# EAGLE library part CM108 (library BaseApp)
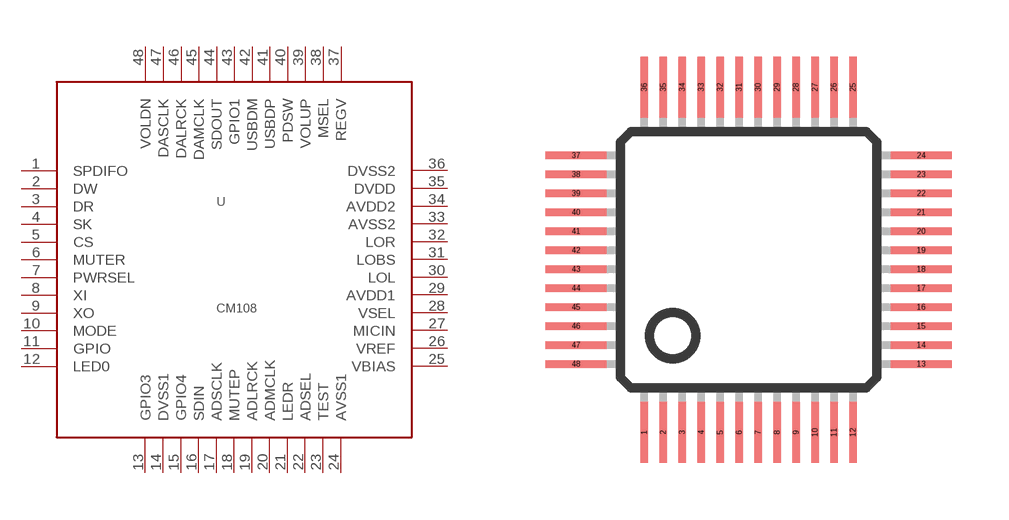
[diagram p81: symbol with the pads of 48LQFP; footprint 48LQFP]

Designator prefix -

## CM108  [48LQFP]
1  SPDIFO
2  DW
3  DR
4  SK
5  CS
6  MUTER
7  PWRSEL
8  XI
9  XO
10  MODE
11  GPIO
12  LED0
13  GPIO3
14  DVSS1
15  GPIO4
16  SDIN
17  ADSCLK
18  MUTEP
19  ADLRCK
20  ADMCLK
21  LEDR
22  ADSEL
23  TEST
24  AVSS1
25  VBIAS
26  VREF
27  MICIN
28  VSEL
29  AVDD1
30  LOL
31  LOBS
32  LOR
33  AVSS2
34  AVDD2
35  DVDD
36  DVSS2
37  REGV
38  MSEL
39  VOLUP
40  PDSW
41  USBDP
42  USBDM
43  GPIO1
44  SDOUT
45  DAMCLK
46  DALRCK
47  DASCLK
48  VOLDN

## Footprint 48LQFP (pad centres in mm)
smd 0.2 x 1.6: 1 -3.004,-4.867; 2 -2.504,-4.867; 3 -2.004,-4.867; 4 -1.504,-4.867; 5 -1.004,-4.867; 6 -0.504,-4.867; 7 -0.004,-4.867; 8 0.496,-4.867; 9 0.996,-4.867; 10 1.496,-4.867; 11 1.996,-4.867; 12 2.496,-4.867; 25 2.496,4.232; 26 1.996,4.232; 27 1.496,4.232; 28 0.996,4.232; 29 0.496,4.232; 30 -0.004,4.232; 31 -0.504,4.232; 32 -1.004,4.232; 33 -1.504,4.232; 34 -2.004,4.232; 35 -2.504,4.232; 36 -3.004,4.232
smd 1.6 x 0.2: 13 4.296,-3.067; 14 4.296,-2.567; 15 4.296,-2.067; 16 4.296,-1.567; 17 4.296,-1.067; 18 4.296,-0.568; 19 4.296,-0.068; 20 4.296,0.432; 21 4.296,0.932; 22 4.296,1.433; 23 4.296,1.933; 24 4.296,2.433; 37 -4.804,2.433; 38 -4.804,1.933; 39 -4.804,1.433; 40 -4.804,0.932; 41 -4.804,0.432; 42 -4.804,-0.068; 43 -4.804,-0.568; 44 -4.804,-1.067; 45 -4.804,-1.567; 46 -4.804,-2.067; 47 -4.804,-2.567; 48 -4.804,-3.067